# EAGLE library part NODEMCU-1.0 (library aobotelhoLibrary)
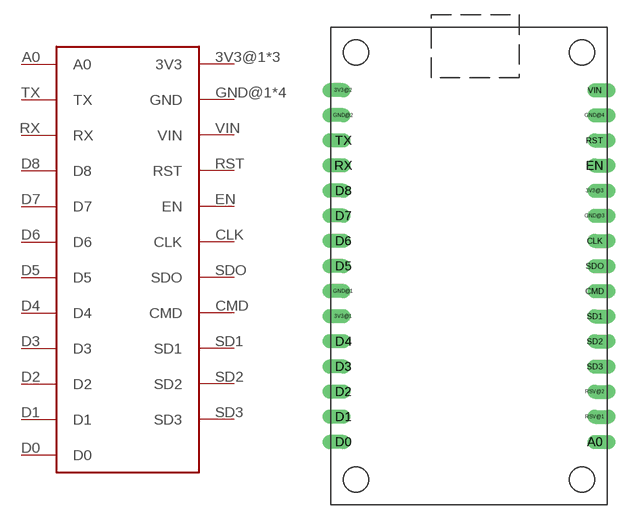
[diagram p11: symbol with the pads of NODEMCU-1.0; footprint NODEMCU-1.0]

Designator prefix -

## NODEMCU-1.0  [NODEMCU-1.0]
3V3@1  3V3
3V3@2  3V3
3V3@3  3V3
A0  A0
CLK  CLK
CMD  CMD
D0  D0
D1  D1
D2  D2
D3  D3
D4  D4
D5  D5
D6  D6
D7  D7
D8  D8
EN  EN
GND@1  GND
GND@2  GND
GND@3  GND
GND@4  GND
RST  RST
RX  RX
SD1  SD1
SD2  SD2
SD3  SD3
SDO  SDO
TX  TX
VIN  VIN

## Footprint NODEMCU-1.0 (pad centres in mm)
drill 0.9 offset: 3V3@1 -12.7,-5.08; 3V3@2 -12.7,17.78; 3V3@3 12.7,7.62; A0 12.7,-17.78; CLK 12.7,2.54; CMD 12.7,-2.54; D0 -12.7,-17.78; D1 -12.7,-15.24; D2 -12.7,-12.7; D3 -12.7,-10.16; D4 -12.7,-7.62; D5 -12.7,0; D6 -12.7,2.54; D7 -12.7,5.08; D8 -12.7,7.62; EN 12.7,10.16; GND@1 -12.7,-2.54; GND@2 -12.7,15.24; GND@3 12.7,5.08; GND@4 12.7,15.24; RST 12.7,12.7; RSV@1 12.7,-15.24; RSV@2 12.7,-12.7; RX -12.7,10.16; SD1 12.7,-5.08; SD2 12.7,-7.62; SD3 12.7,-10.16; SDO 12.7,0; TX -12.7,12.7; VIN 12.7,17.78